# EAGLE library part LTC3868-1 (library PowerProducts)
Low IQ, Dual 2-Phase Synchronous Step-Down Controller
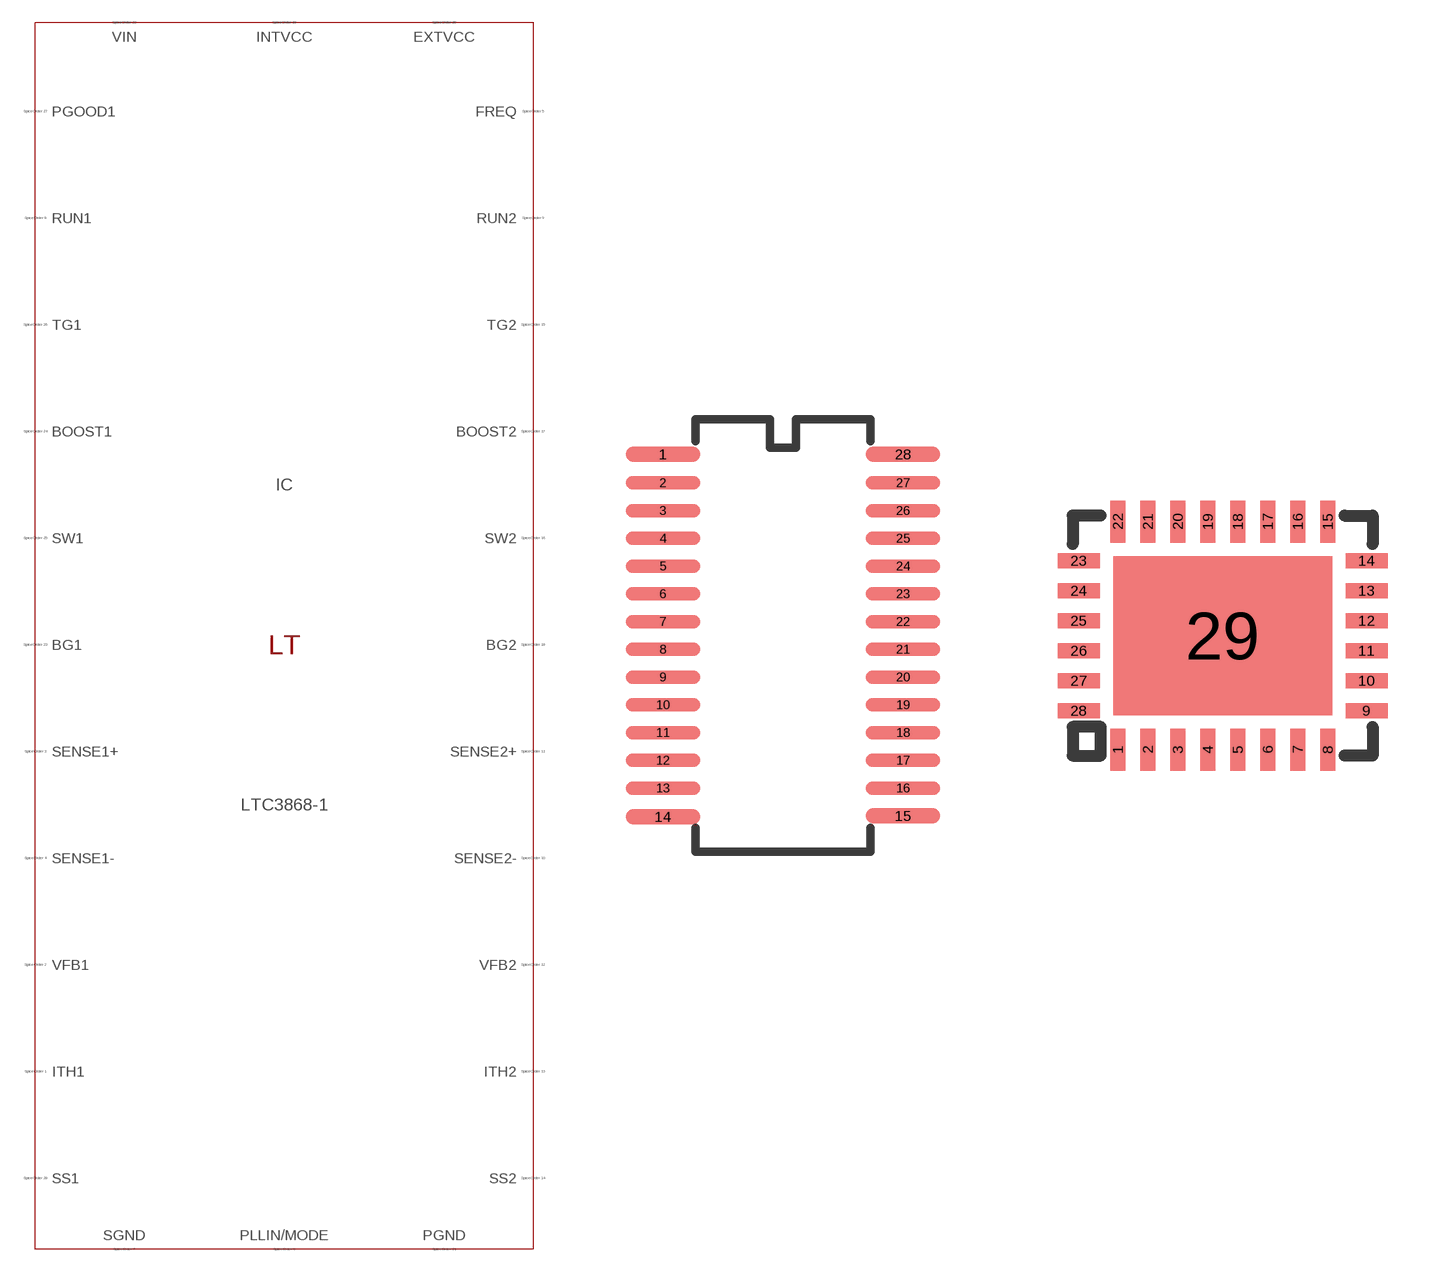
[diagram p384: symbol with the pads of SSOP28(GN); footprints SSOP28(GN), QFN28(UFD)]

Designator prefix IC

## LTC3868-1 (SPICEMODEL: LTC3868-1.sub; SPICEPREFIX: X; VALUE2: LTC3868-1)  [SSOP28(GN)]
1  ITH1  pas
2  VFB1  pas
3  SENSE1+  pas
4  SENSE1-  pas
5  FREQ  pas
6  PLLIN/MODE  pas
7  SGND  pas
8  RUN1  pas
9  RUN2  pas
10  SENSE2-  pas
11  SENSE2+  pas
12  VFB2  pas
13  ITH2  pas
14  SS2  pas
15  TG2  pas
16  SW2  pas
17  BOOST2  pas
18  BG2  pas
19  INTVCC  pas
20  EXTVCC  pas
21  PGND  pas
22  VIN  pas
23  BG1  pas
24  BOOST1  pas
25  SW1  pas
26  TG1  pas
27  PGOOD1  pas
28  SS1  pas

## LTC3868-1UFD (SPICEMODEL: LTC3868-1.sub; SPICEPREFIX: X; VALUE2: LTC3868-1)  [QFN28(UFD)]
1  SENSE1+  pas
2  SENSE1-  pas
3  FREQ  pas
4  PLLIN/MODE  pas
5  SGND  pas
6  RUN1  pas
7  RUN2  pas
8  SENSE2-  pas
9  SENSE2+  pas
10  VFB2  pas
11  ITH2  pas
12  SS2  pas
13  TG2  pas
14  SW2  pas
15  BOOST2  pas
16  BG2  pas
17  INTVCC  pas
18  EXTVCC  pas
19  PGND  pas
20  VIN  pas
21  BG1  pas
22  BOOST1  pas
23  SW1  pas
24  TG1  pas
25  PGOOD1  pas
26  SS1  pas
27  ITH1  pas
28  VFB1  pas
29  SGND  pas

## Footprint SSOP28(GN) (pad centres in mm)
Package generated from: SSOP28(GN).asc (!PADS-POWERPCB-V5.0-BASIC! DESIGN DATABASE ASCII FILE 1.0) with :import-pads-powerpcb-v5.ulp Version 1.0.1 at 04.10.2012 14:11:39
smd 2.55 x 0.525: 1 -4.123,6.221; 14 -4.123,-6.221; 15 4.123,-6.191; 28 4.123,6.221
smd 2.55 x 0.458: 2 -4.123,5.239; 3 -4.123,4.286; 4 -4.123,3.334; 5 -4.123,2.381; 6 -4.123,1.429; 7 -4.123,0.476; 8 -4.123,-0.476; 9 -4.123,-1.429; 10 -4.123,-2.381; 11 -4.123,-3.334; 12 -4.123,-4.286; 13 -4.123,-5.239; 16 4.123,-5.239; 17 4.123,-4.286; 18 4.123,-3.334; 19 4.123,-2.381; 20 4.123,-1.429; 21 4.123,-0.476; 22 4.123,0.476; 23 4.123,1.429; 24 4.123,2.381; 25 4.123,3.334; 26 4.123,4.286; 27 4.123,5.239

## Footprint QFN28(UFD) (pad centres in mm)
Package generated from: QFN28(UFD).asc (!PADS-POWERPCB-V5.0-BASIC! DESIGN DATABASE ASCII FILE 1.0) with :import-pads-powerpcb-v5.ulp Version 1.0.1 at 04.10.2012 14:11:25
smd 0.375 x 1.05: 1 -2.625,-2.85; 2 -1.875,-2.85; 3 -1.125,-2.85; 4 -0.375,-2.85; 5 0.375,-2.85; 6 1.125,-2.85; 7 1.875,-2.85; 8 2.625,-2.85; 15 2.625,2.85; 16 1.875,2.85; 17 1.125,2.85; 18 0.375,2.85; 19 -0.375,2.85; 20 -1.125,2.85; 21 -1.875,2.85; 22 -2.625,2.85
smd 1.05 x 0.375: 9 3.6,-1.875; 10 3.6,-1.125; 11 3.6,-0.375; 12 3.6,0.375; 13 3.6,1.125; 14 3.6,1.875; 23 -3.6,1.875; 24 -3.6,1.125; 25 -3.6,0.375; 26 -3.6,-0.375; 27 -3.6,-1.125; 28 -3.6,-1.875
smd 5.475 x 3.975: 29 0,0